# EAGLE library part NA (library te-im)
RELAY
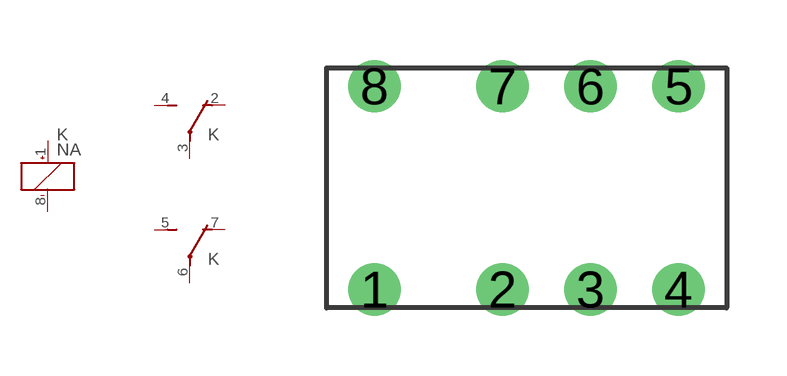
[diagram p0: symbol with the pads of IMXX-T; footprint IMXX-T]

Designator prefix K; gates 1=K+- 2=U 3=U

## NA  [IMXX-T]
1  1:+  pas
2  2:O  pas
3  2:P  pas
4  2:S  pas
5  3:S  pas
6  3:P  pas
7  3:O  pas
8  1:-  pas

## Footprint IMXX-T (pad centres in mm)
drill 0.8: 1 -3.8,-2.54; 2 -0.6,-2.54; 3 1.6,-2.54; 4 3.8,-2.54; 5 3.8,2.54; 6 1.6,2.54; 7 -0.6,2.54; 8 -3.8,2.54